# EAGLE library part UCC2745 (library slom)
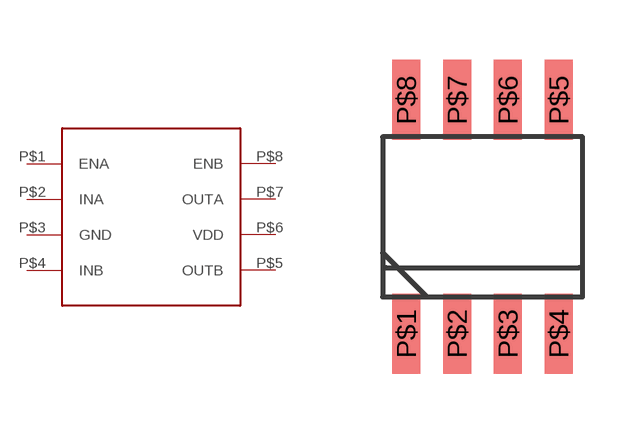
[diagram p2: symbol with the pads of D-SOIC-8; footprint D-SOIC-8]

Designator prefix -

## UCC2745  [D-SOIC-8]
P$1  ENA
P$2  INA
P$3  GND
P$4  INB
P$5  OUTB
P$6  VDD
P$7  OUTA
P$8  ENB

## Footprint D-SOIC-8 (pad centres in mm)
smd 0.7 x 2: P$1 -1.905,-2.921; P$2 -0.635,-2.921; P$3 0.635,-2.921; P$4 1.905,-2.921; P$5 1.905,2.921; P$6 0.635,2.921; P$7 -0.635,2.921; P$8 -1.905,2.921